# EAGLE library part TUSB2046BIRHB (library texas)
4-PORT HUB FOR THE UNIVERSAL SERIAL BUS WITH OPTIONAL SERIAL EEPROM INTERFACE Source: http://focus.ti.com/lit/ds/symlink/tusb2046b.pdf
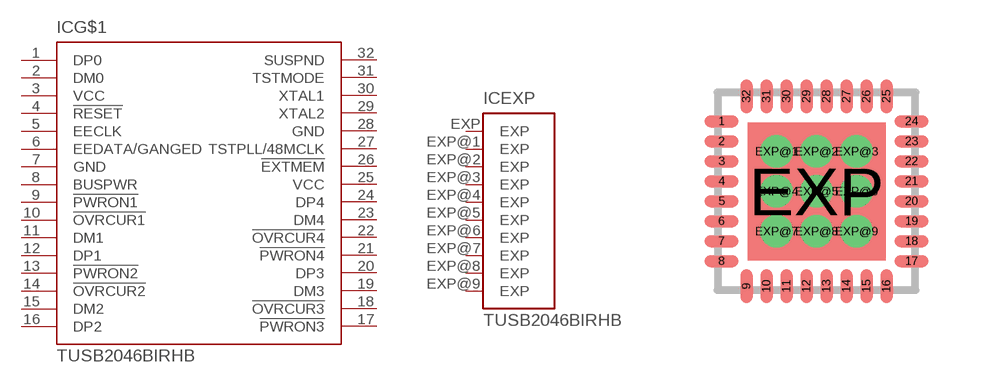
[diagram p102: symbol with the pads of RHB_S-PQFP-N32; footprint RHB_S-PQFP-N32]

Designator prefix IC; gates G$1=TUSB2046B EXP=EXP10

## TUSB2046BIRHBIRHB  [RHB_S-PQFP-N32]
1  G$1:DP0
2  G$1:DM0
3  G$1:VCC  pwr
4  G$1:!RESET  in
5  G$1:EECLK  out
6  G$1:EEDATA/GANGED
7  G$1:GND  pwr
8  G$1:BUSPWR  in
9  G$1:!PWRON1  out
10  G$1:!OVRCUR1  in
11  G$1:DM1
12  G$1:DP1
13  G$1:!PWRON2  out
14  G$1:!OVRCUR2  in
15  G$1:DM2
16  G$1:DP2
17  G$1:!PWRON3  out
18  G$1:!OVRCUR3  in
19  G$1:DM3
20  G$1:DP3
21  G$1:!PWRON4  out
22  G$1:!OVRCUR4  in
23  G$1:DM4
24  G$1:DP4
25  G$1:VCC  pwr
26  G$1:!EXTMEM  in
27  G$1:TSTPLL/48MCLK
28  G$1:GND  pwr
29  G$1:XTAL2  out
30  G$1:XTAL1  in
31  G$1:TSTMODE  in
32  G$1:SUSPND  out
EXP  EXP:EXP  pas
EXP@1  EXP:EXP  pas
EXP@2  EXP:EXP  pas
EXP@3  EXP:EXP  pas
EXP@4  EXP:EXP  pas
EXP@5  EXP:EXP  pas
EXP@6  EXP:EXP  pas
EXP@7  EXP:EXP  pas
EXP@8  EXP:EXP  pas
EXP@9  EXP:EXP  pas

## Footprint RHB_S-PQFP-N32 (pad centres in mm)
RHB (S-PQFP-N32) Source: http://focus.ti.com/lit/ds/symlink/tusb2046b.pdf
smd 0.85 x 0.3: 1 -2.375,1.75; 2 -2.375,1.25; 3 -2.375,0.75; 4 -2.375,0.25; 5 -2.375,-0.25; 6 -2.375,-0.75; 7 -2.375,-1.25; 8 -2.375,-1.75; 17 2.375,-1.75; 18 2.375,-1.25; 19 2.375,-0.75; 20 2.375,-0.25; 21 2.375,0.25; 22 2.375,0.75; 23 2.375,1.25; 24 2.375,1.75
smd 0.3 x 0.85: 9 -1.75,-2.375; 10 -1.25,-2.375; 11 -0.75,-2.375; 12 -0.25,-2.375; 13 0.25,-2.375; 14 0.75,-2.375; 15 1.25,-2.375; 16 1.75,-2.375; 25 1.75,2.375; 26 1.25,2.375; 27 0.75,2.375; 28 0.25,2.375; 29 -0.25,2.375; 30 -0.75,2.375; 31 -1.25,2.375; 32 -1.75,2.375
smd 3.45 x 3.45: EXP 0,0
drill 0.3 pad 0.6 round: EXP@1 -1,1; EXP@2 0,1; EXP@3 1,1; EXP@4 -1,0; EXP@5 0,0; EXP@6 1,0; EXP@7 -1,-1; EXP@8 0,-1; EXP@9 1,-1